# EAGLE library part SMDPINH2X3 (library SquantorConnectors)
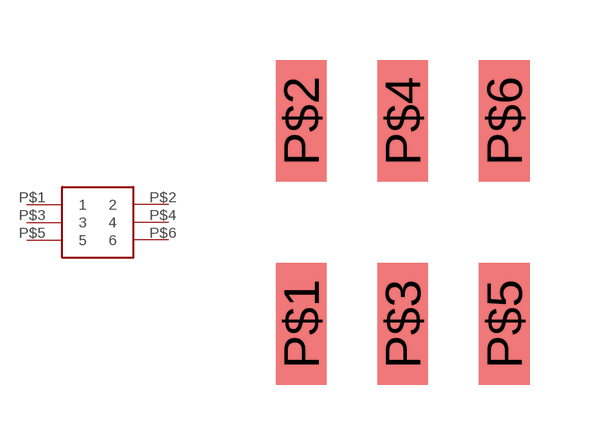
[diagram p3: symbol with the pads of SMDPINH2X3; footprint SMDPINH2X3]

Designator prefix -

## SMDPINH2X3  [SMDPINH2X3]
P$1  1
P$2  2
P$3  3
P$4  4
P$5  5
P$6  6

## Footprint SMDPINH2X3 (pad centres in mm)
smd 1.27 x 3.048: P$1 -2.54,-2.54; P$2 -2.54,2.54; P$3 0,-2.54; P$4 0,2.54; P$5 2.54,-2.54; P$6 2.54,2.54